# EAGLE library part 74LV4094 (library WISE)
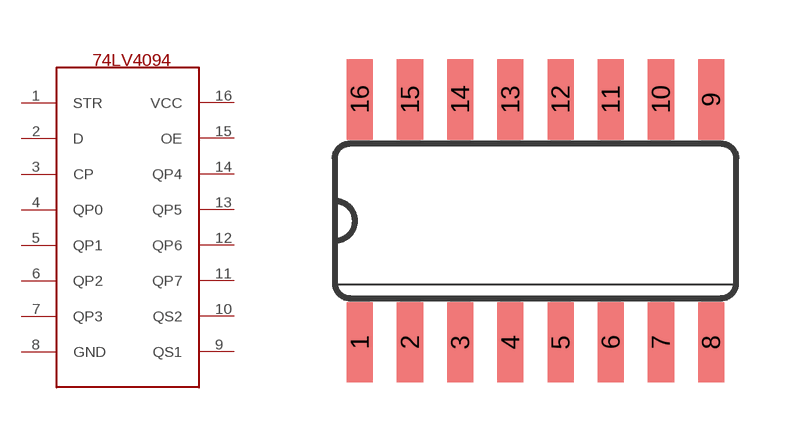
[diagram p2: symbol with the pads of SO16; footprint SO16]

Designator prefix -

## 74LV4094  [SO16]
1  STR
2  D
3  CP
4  QP0
5  QP1
6  QP2
7  QP3
8  GND  pwr
9  QS1
10  QS2
11  QP7
12  QP6
13  QP5
14  QP4
15  OE
16  VCC  pwr

## Footprint SO16 (pad centres in mm)
Small Outline package 150 mil
smd 0.66 x 2.032: 1 -4.445,-3.073; 2 -3.175,-3.073; 3 -1.905,-3.073; 4 -0.635,-3.073; 5 0.635,-3.073; 6 1.905,-3.073; 7 3.175,-3.073; 8 4.445,-3.073; 9 4.445,3.073; 10 3.175,3.073; 11 1.905,3.073; 12 0.635,3.073; 13 -0.635,3.073; 14 -1.905,3.073; 15 -3.175,3.073; 16 -4.445,3.073